# Altium footprint library Pattern No3d 20090609.PcbLib: 323 footprints (part 18 of 22)
Each footprint in its own frame and in the unit in brackets; x right, y up, seen from the top. Pads: shape width x height; smd on the part's side, far side on the other; paste and mask are expansions set on the pad; w line width, h text height; cw(c..) or ccw(c..) is an arc to the next point about the centre after c.
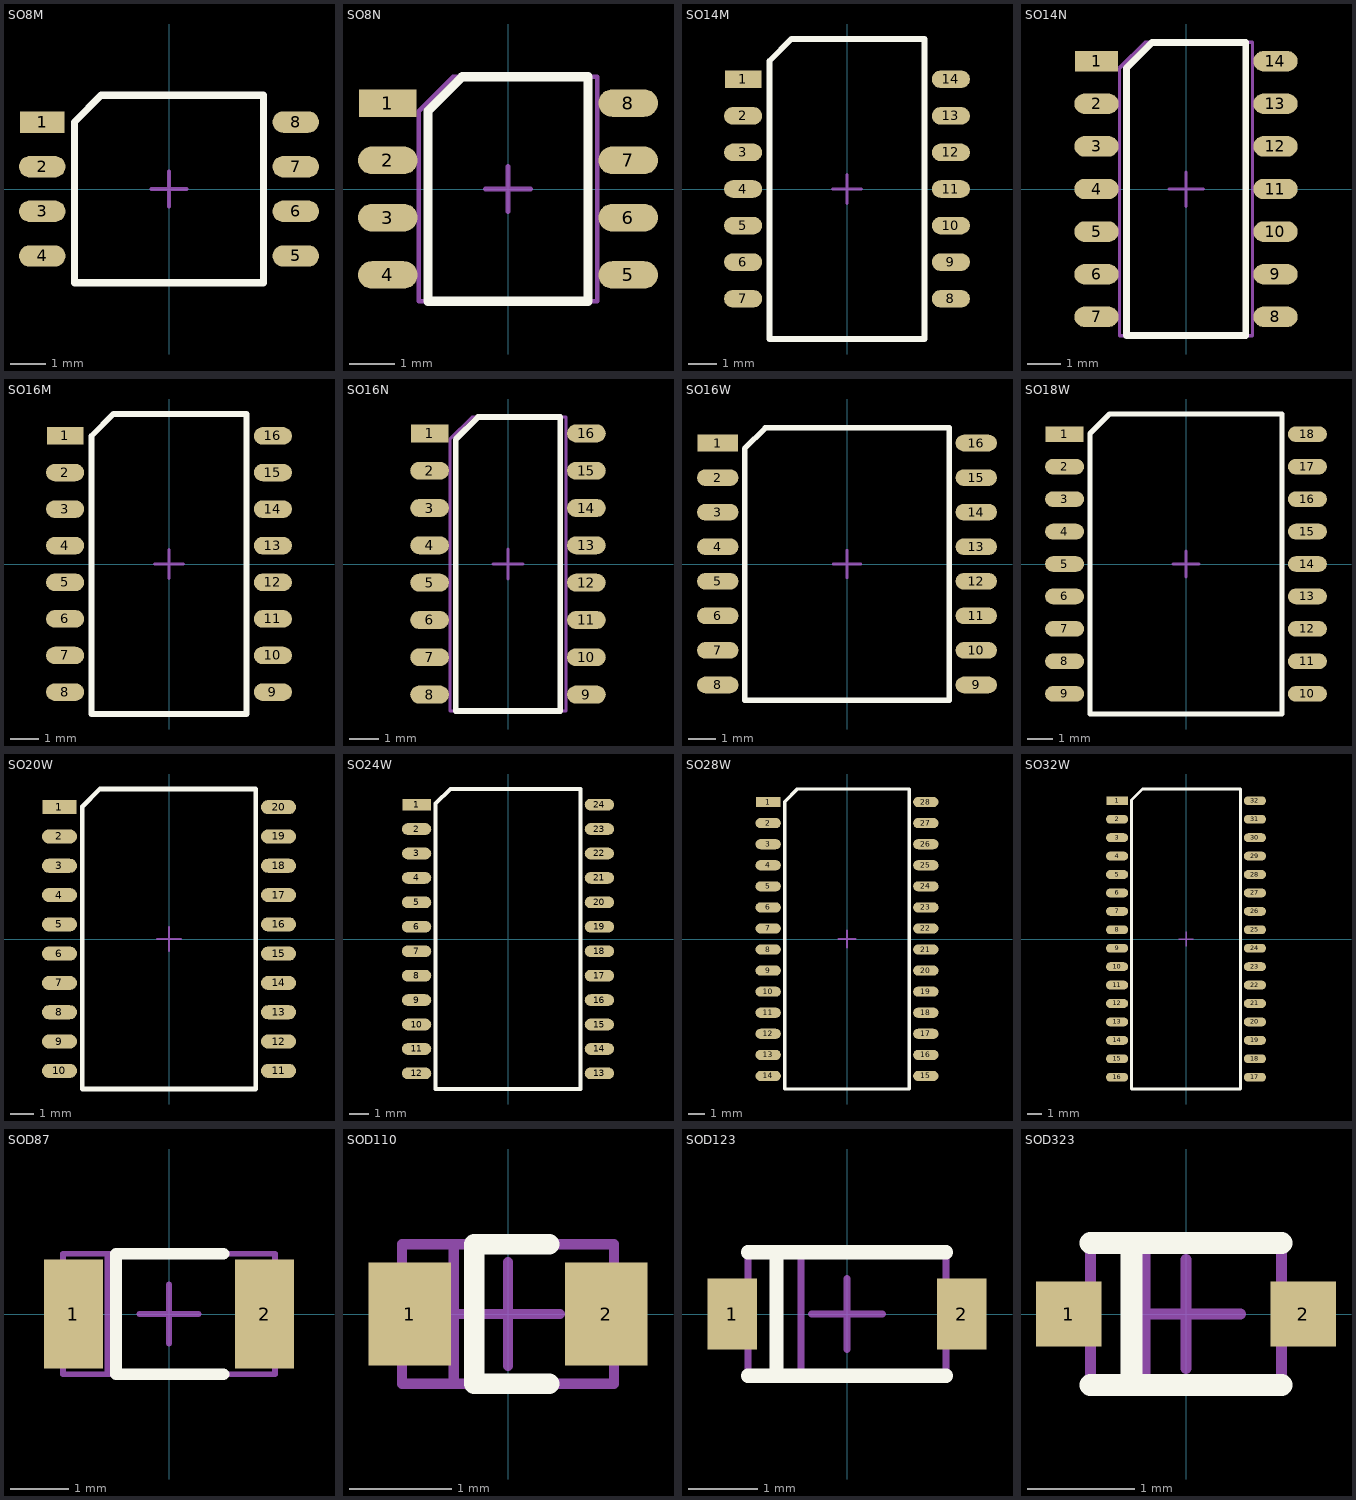
[diagram p17: the footprints below, top view; thin cyan lines are the x and y axes]

## SO8M [mil] "http://www.onsemi.com/pub_link/Collateral/968-01.PDF"
pads (8):
  rect 50x24 smd mask+4: 1(-142,75)
  oval 52x24 smd mask+4: 2(-142,25) 3(-142,-25) 4(-142,-75) 5(142,-75) 6(142,-25) 7(142,25) 8(142,75)
Top Overlay:
  lines w8: -106,-105 106,-105 106,105 -76,105 -106,75 -106,-105
Mechanical 1:
  lines w4: -106,-105 106,-105 106,105 -76,105 -106,75 -106,-105
Mechanical 15:
  lines w4: -20,0 20,0 ; 0,-20 0,20

## SO8N [mil] "http://www.nxp.com/acrobat_download/packages/SOT096-1.pdf"
pads (8):
  rect 50x24 smd mask+4: 1(-105,75)
  oval 52x24 smd mask+4: 2(-105,25) 3(-105,-25) 4(-105,-75) 5(105,-75) 6(105,-25) 7(105,25) 8(105,75)
Top Overlay:
  lines w8: -70,-98 -70,68 -40,98 70,98 70,-98 -70,-98
Mechanical 1:
  lines w4: -78,-98 -78,68 -48,98 78,98 78,-98 -78,-98
Mechanical 15:
  lines w4: -20,0 20,0 ; 0,-20 0,20

## SO14M [mil] "http://www.onsemi.com/pub_link/Collateral/965-01.PDF"
pads (14):
  rect 50x24 smd mask+4: 1(-142,150)
  oval 52x24 smd mask+4: 2(-142,100) 3(-142,50) 4(-142,0) 5(-142,-50) 6(-142,-100) 7(-142,-150) 8(142,-150) 9(142,-100) 10(142,-50) 11(142,0) 12(142,50) 13(142,100) 14(142,150)
Top Overlay:
  lines w8: -106,-205 -106,175 -76,205 106,205 106,-205 -106,-205
Mechanical 1:
  lines w4: -106,-205 -106,175 -76,205 106,205 106,-205 -106,-205
Mechanical 15:
  lines w4: -20,0 20,0 ; 0,-20 0,20

## SO14N [mil] "http://www.nxp.com/acrobat_download/packages/SOT108-1.pdf"
pads (14):
  rect 50x24 smd mask+4: 1(-105,150)
  oval 52x24 smd mask+4: 2(-105,100) 3(-105,50) 4(-105,0) 5(-105,-50) 6(-105,-100) 7(-105,-150) 8(105,-150) 9(105,-100) 10(105,-50) 11(105,0) 12(105,50) 13(105,100) 14(105,150)
Top Overlay:
  lines w8: -70,-172 -70,142 -40,172 70,172 70,-172 -70,-172
Mechanical 1:
  lines w4: -78,-172 -78,142 -48,172 78,172 78,-172 -78,-172
Mechanical 15:
  lines w4: -20,0 20,0 ; 0,-20 0,20

## SO16M [mil] "http://www.onsemi.com/pub_link/Collateral/966-01.PDF"
pads (16):
  rect 50x24 smd mask+4: 1(-142,175)
  oval 52x24 smd mask+4: 2(-142,125) 3(-142,75) 4(-142,25) 5(-142,-25) 6(-142,-75) 7(-142,-125) 8(-142,-175) 9(142,-175) 10(142,-125) 11(142,-75) 12(142,-25) 13(142,25) 14(142,75) 15(142,125) 16(142,175)
Top Overlay:
  lines w8: -106,-205 106,-205 106,205 -76,205 -106,175 -106,-205
Mechanical 1:
  lines w4: -106,-205 106,-205 106,205 -76,205 -106,175 -106,-205
Mechanical 15:
  lines w4: -20,0 20,0 ; 0,-20 0,20

## SO16N [mil] "http://www.nxp.com/acrobat_download/packages/SOT109-1.pdf"
pads (16):
  rect 50x24 smd mask+4: 1(-105,175)
  oval 52x24 smd mask+4: 2(-105,125) 3(-105,75) 4(-105,25) 5(-105,-25) 6(-105,-75) 7(-105,-125) 8(-105,-175) 9(105,-175) 10(105,-125) 11(105,-75) 12(105,-25) 13(105,25) 14(105,75) 15(105,125) 16(105,175)
Top Overlay:
  lines w8: -70,-197 -70,167 -40,197 70,197 70,-197 -70,-197
Mechanical 1:
  lines w4: -78,-197 -78,167 -48,197 78,197 78,-197 -78,-197
Mechanical 15:
  lines w4: -20,0 20,0 ; 0,-20 0,20

## SO16W [mil] "http://www.nxp.com/acrobat_download/packages/SOT162-1.pdf"
pads (16):
  rect 58x24 smd mask+4: 1(-187,175)
  oval 60x24 smd mask+4: 2(-187,125) 3(-187,75) 4(-187,25) 5(-187,-25) 6(-187,-75) 7(-187,-125) 8(-187,-175) 9(187,-175) 10(187,-125) 11(187,-75) 12(187,-25) 13(187,25) 14(187,75) 15(187,125) 16(187,175)
Top Overlay:
  lines w8: -148,-197 -148,167 -118,197 148,197 148,-197 -148,-197
Mechanical 1:
  lines w4: -149,-197 -149,167 -119,197 149,197 149,-197 -149,-197
Mechanical 15:
  lines w4: -20,0 20,0 ; 0,-20 0,20

## SO18W [mil] "http://pdfserv.maxim-ic.com/package_dwgs/21-0042.PDF"
pads (18):
  rect 58x24 smd mask+4: 1(-187,200)
  oval 60x24 smd mask+4: 2(-187,150) 3(-187,100) 4(-187,50) 5(-187,0) 6(-187,-50) 7(-187,-100) 8(-187,-150) 9(-187,-200) 10(187,-200) 11(187,-150) 12(187,-100) 13(187,-50) 14(187,0) 15(187,50) 16(187,100) 17(187,150) 18(187,200)
Top Overlay:
  lines w8: -148,-231 148,-231 148,231 -118,231 -148,201 -148,-231
Mechanical 1:
  lines w4: -149,-231 149,-231 149,231 -119,231 -149,201 -149,-231
Mechanical 15:
  lines w4: -20,0 20,0 ; 0,-20 0,20

## SO20W [mil] "http://www.nxp.com/acrobat_download/packages/SOT163-1.pdf"
pads (20):
  rect 58x24 smd mask+4: 1(-187,225)
  oval 60x24 smd mask+4: 2(-187,175) 3(-187,125) 4(-187,75) 5(-187,25) 6(-187,-25) 7(-187,-75) 8(-187,-125) 9(-187,-175) 10(-187,-225) 11(187,-225) 12(187,-175) 13(187,-125) 14(187,-75) 15(187,-25) 16(187,25) 17(187,75) 18(187,125) 19(187,175) 20(187,225)
Top Overlay:
  lines w8: -148,-256 -148,226 -118,256 148,256 148,-256 -148,-256
Mechanical 1:
  lines w4: -149,-256 -149,226 -119,256 149,256 149,-256 -149,-256
Mechanical 15:
  lines w4: -20,0 20,0 ; 0,-20 0,20

## SO24W [mil] "http://www.nxp.com/acrobat_download/packages/SOT137-1.pdf"
pads (24):
  rect 58x24 smd mask+4: 1(-187,275)
  oval 60x24 smd mask+4: 2(-187,225) 3(-187,175) 4(-187,125) 5(-187,75) 6(-187,25) 7(-187,-25) 8(-187,-75) 9(-187,-125) 10(-187,-175) 11(-187,-225) 12(-187,-275) 13(187,-275) 14(187,-225) 15(187,-175) 16(187,-125) 17(187,-75) 18(187,-25) 19(187,25) 20(187,75) 21(187,125) 22(187,175) 23(187,225) 24(187,275)
Top Overlay:
  lines w8: -148,-307 -148,277 -118,307 148,307 148,-307 -148,-307
Mechanical 1:
  lines w4: -149,-307 -149,277 -119,307 149,307 149,-307 -149,-307

## SO28W [mil] "http://www.nxp.com/acrobat_download/packages/SOT136-1.pdf"
pads (28):
  rect 58x24 smd mask+4: 1(-187,325)
  oval 60x24 smd mask+4: 2(-187,275) 3(-187,225) 4(-187,175) 5(-187,125) 6(-187,75) 7(-187,25) 8(-187,-25) 9(-187,-75) 10(-187,-125) 11(-187,-175) 12(-187,-225) 13(-187,-275) 14(-187,-325) 15(187,-325) 16(187,-275) 17(187,-225) 18(187,-175) 19(187,-125) 20(187,-75) 21(187,-25) 22(187,25) 23(187,75) 24(187,125) 25(187,175) 26(187,225) 27(187,275) 28(187,325)
Top Overlay:
  lines w8: -148,-356 148,-356 148,356 -118,356 -148,326 -148,-356
Mechanical 1:
  lines w4: -149,-356 149,-356 149,356 -119,356 -149,326 -149,-356
Mechanical 15:
  lines w4: -20,0 20,0 ; 0,-20 0,20

## SO32W [mil] "http://www.nxp.com/acrobat_download/packages/SOT287-1.pdf"
pads (32):
  rect 58x24 smd mask+4: 1(-187,375)
  oval 60x24 smd mask+4: 2(-187,325) 3(-187,275) 4(-187,225) 5(-187,175) 6(-187,125) 7(-187,75) 8(-187,25) 9(-187,-25) 10(-187,-75) 11(-187,-125) 12(-187,-175) 13(-187,-225) 14(-187,-275) 15(-187,-325) 16(-187,-375) 17(187,-375) 18(187,-325) 19(187,-275) 20(187,-225) 21(187,-175) 22(187,-125) 23(187,-75) 24(187,-25) 25(187,25) 26(187,75) 27(187,125) 28(187,175) 29(187,225) 30(187,275) 31(187,325) 32(187,375)
Top Overlay:
  lines w8: -148,-407 -148,377 -118,407 148,407 148,-407 -148,-407
Mechanical 1:
  lines w4: -149,-407 -149,377 -119,407 149,407 149,-407 -149,-407
Mechanical 15:
  lines w4: -20,0 20,0 ; 0,-20 0,20

## SOD87 [mil] "http://www.nxp.com/acrobat_download/packages/SOD87.pdf"
pads (2):
  rect 40x74 smd mask+4: 1(-65,0) 2(65,0)
Top Overlay:
  lines w8: 37,-41 -36,-41 -36,41 37,41
Mechanical 1:
  lines w4: -42,-41 -42,41 ; -72,-41 -72,41 72,41 72,-41 -72,-41
Mechanical 15:
  lines w4: -20,0 20,0 ; 0,-20 0,20

## SOD110 [mil] "http://www.nxp.com/acrobat_download/packages/SOD110.pdf"
pads (2):
  rect 32x40 smd mask+4: 1(-38,0) 2(38,0)
Top Overlay:
  lines w8: 16,-27 -13,-27 -13,27 16,27
Mechanical 1:
  lines w4: -21,-27 -21,27 ; -41,-27 41,-27 41,27 -41,27 -41,-27
Mechanical 15:
  lines w4: -20,0 20,0 ; 0,-20 0,20

## SOD123 [mil] "http://www.weitron.com.tw/pro_outline.phtml?outline=SOD-123 http://www.vishay.com/docs/95053/sod123.pdf"
pads (2):
  rect 28x40 smd mask+4: 1(-65,0) 2(65,0)
Top Overlay:
  lines w8: -56,-35 56,-35 ; -56,35 56,35 ; -40,-35 -40,35
Mechanical 1:
  lines w4: -26,-35 -26,35 ; -56,-35 -56,35 56,35 56,-35 -56,-35
Mechanical 15:
  lines w4: -20,0 20,0 ; 0,-20 0,20

## SOD323 [mil] "http://www.nxp.com/acrobat_download/packages/SOD323.pdf"
pads (2):
  rect 24x24 smd mask+4: 1(-43,0) 2(43,0)
Top Overlay:
  lines w8: -35,-26 35,-26 ; -35,26 35,26 ; -20,-26 -20,26
Mechanical 1:
  lines w4: -15,-26 -15,26 ; -35,-26 -35,26 35,26 35,-26 -35,-26
Mechanical 15:
  lines w4: -20,0 20,0 ; 0,-20 0,20